# EAGLE library part WAVECOM (library custom-2002)
Modem GSM Dual WAVECOM WMOi3.
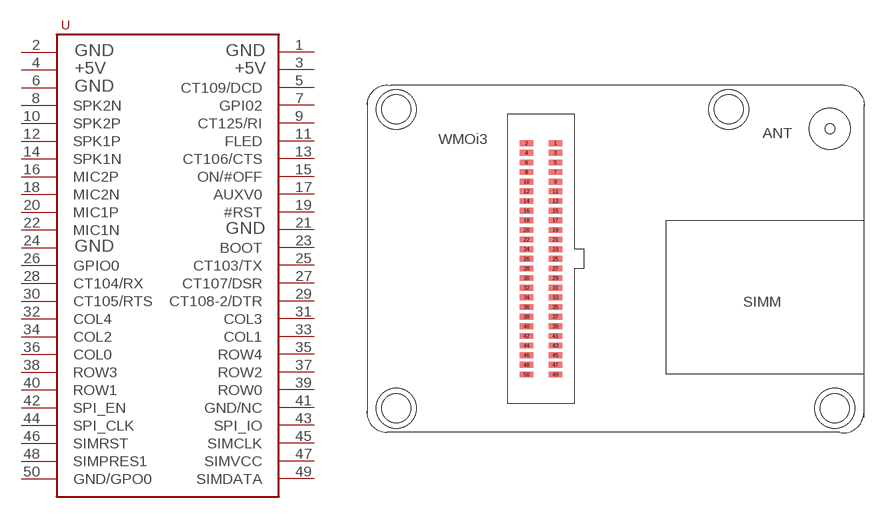
[diagram p1: symbol with the pads of FTS-125-01-L-DV; footprint FTS-125-01-L-DV]

Designator prefix -

## WAVECOMWMOI3  [FTS-125-01-L-DV]
1  GND  sup
2  GND  sup
3  +5V
4  +5V
5  CT109/DCD
6  GND  sup
7  GPI02
8  SPK2N
9  CT125/RI
10  SPK2P
11  FLED
12  SPK1P
13  CT106/CTS
14  SPK1N
15  ON/#OFF
16  MIC2P
17  AUXV0
18  MIC2N
19  #RST
20  MIC1P
21  GND  sup
22  MIC1N
23  BOOT
24  GND  sup
25  CT103/TX
26  GPIO0
27  CT107/DSR
28  CT104/RX
29  CT108-2/DTR
30  CT105/RTS
31  COL3
32  COL4
33  COL1
34  COL2
35  ROW4
36  COL0
37  ROW2
38  ROW3
39  ROW0
40  ROW1
41  GND/NC
42  SPI_EN
43  SPI_IO
44  SPI_CLK
45  SIMCLK
46  SIMRST
47  SIMVCC
48  SIMPRES1
49  SIMDATA
50  GND/GPO0

## Footprint FTS-125-01-L-DV (pad centres in mm)
50 PINS INTERFACE CONNECTOR WITH A PITCH OF 1.27 FROM SAMTEC
smd 1.778 x 0.762: 1 0.635,0; 2 -3.175,0; 3 0.635,-1.27; 4 -3.175,-1.27; 5 0.635,-2.54; 6 -3.175,-2.54; 7 0.635,-3.81; 8 -3.175,-3.81; 9 0.635,-5.08; 10 -3.175,-5.08; 11 0.635,-6.35; 12 -3.175,-6.35; 13 0.635,-7.62; 14 -3.175,-7.62; 15 0.635,-8.89; 16 -3.175,-8.89; 17 0.635,-10.16; 18 -3.175,-10.16; 19 0.635,-11.43; 20 -3.175,-11.43; 21 0.635,-12.7; 22 -3.175,-12.7; 23 0.635,-13.97; 24 -3.175,-13.97; 25 0.635,-15.24; 26 -3.175,-15.24; 27 0.635,-16.51; 28 -3.175,-16.51; 29 0.635,-17.78; 30 -3.175,-17.78; 31 0.635,-19.05; 32 -3.175,-19.05; 33 0.635,-20.32; 34 -3.175,-20.32; 35 0.635,-21.59; 36 -3.175,-21.59; 37 0.635,-22.86; 38 -3.175,-22.86; 39 0.635,-24.13; 40 -3.175,-24.13; 41 0.635,-25.4; 42 -3.175,-25.4; 43 0.635,-26.67; 44 -3.175,-26.67; 45 0.635,-27.94; 46 -3.175,-27.94; 47 0.635,-29.21; 48 -3.175,-29.21; 49 0.635,-30.48; 50 -3.175,-30.48
hole 3.81 at -20.32,4.445
hole 3.81 at -20.32,-34.925
hole 3.81 at 37.465,-34.925
hole 3.81 at 23.495,4.445